# Altium footprint library lib_actives.PcbLib: 10 footprints
Each footprint in its own frame and in the unit in brackets; x right, y up, seen from the top. Pads: shape width x height; smd on the part's side, far side on the other; paste and mask are expansions set on the pad; w line width, h text height; cw(c..) or ccw(c..) is an arc to the next point about the centre after c.
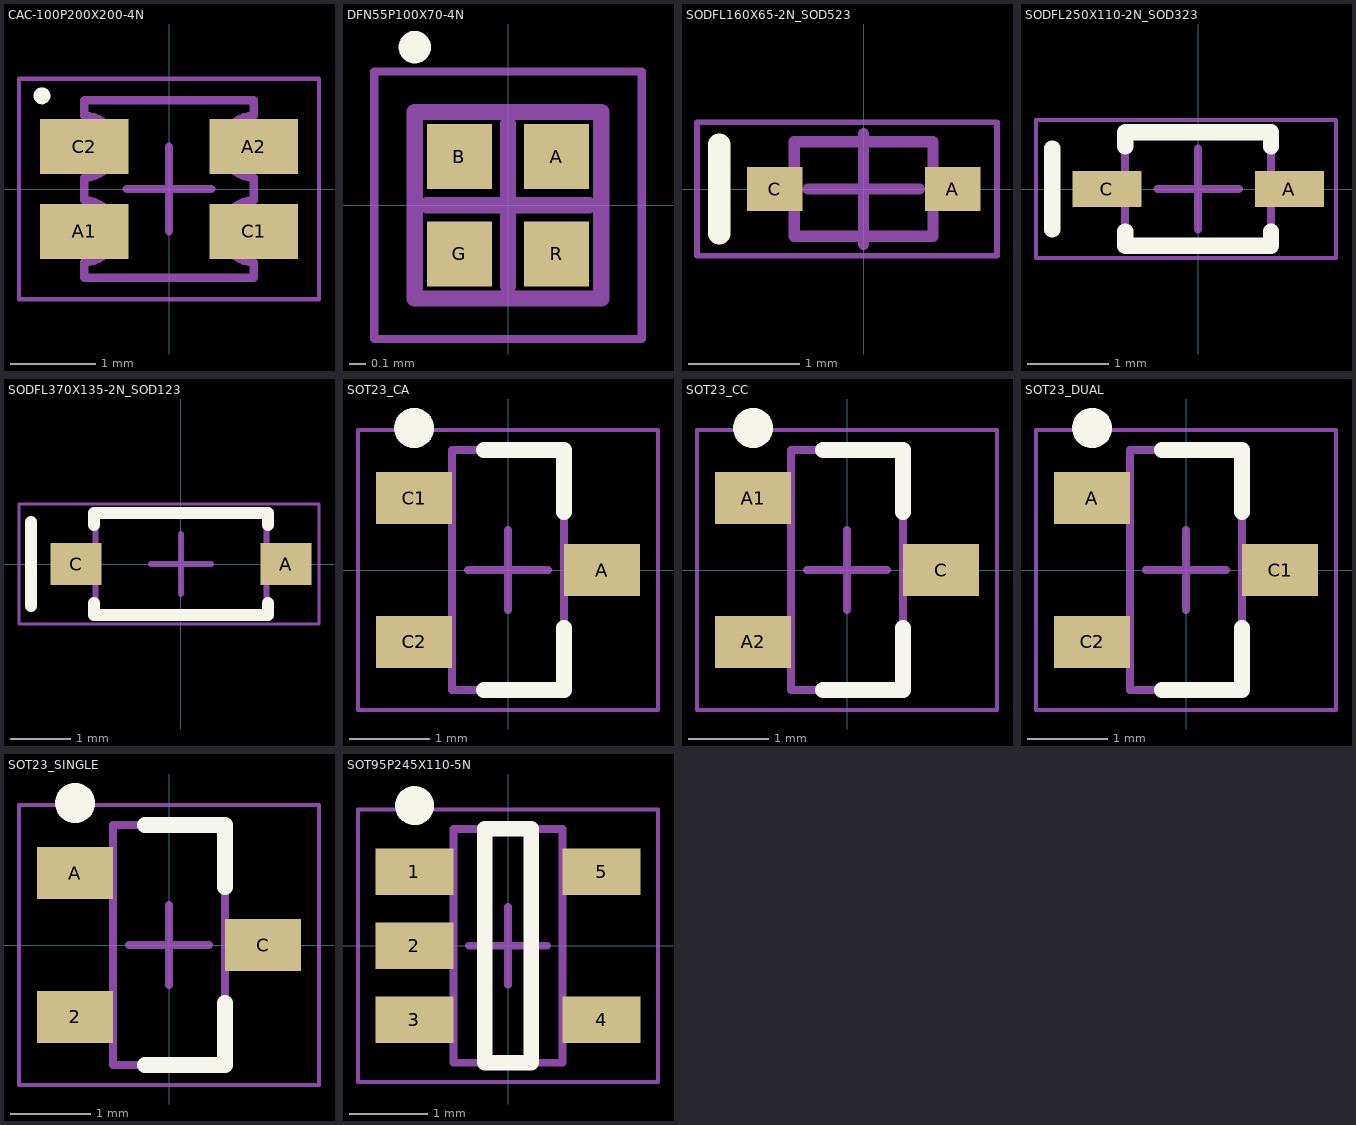
[diagram p0: the footprints below, top view; thin cyan lines are the x and y axes]

## CAC-100P200X200-4N [mm] "Chip Array, Concave, 4-Leads, Pitch 1.00mm,  Body 2.00x2.00mm,  IPC Medium Density - VSMD66694"
height 0.97
pads (4):
  rect 1.05x0.65 smd: A1(-1,-0.5) A2(1,0.5) C1(1,-0.5) C2(-1,0.5)
Top Overlay:
  circle w0.1: c-1.5,1.1 r0.05
Mechanical 13:
  lines w0.1: -1,-1.05 1,-1.05 1,-0.865 cw(c1,-0.5) 1,-0.135 1,0.135 cw(c1,0.5) 1,0.865 1,1.05 -1,1.05 -1,0.865 cw(c-1,0.5) -1,0.135 -1,-0.135 cw(c-1,-0.5) -1,-0.865 -1,-1.05
Mechanical 15:
  lines w0.05: -1.77,-1.3 1.77,-1.3 1.77,1.3 -1.77,1.3 -1.77,-1.3
  lines w0.1: -0.5,0 0.5,0 ; 0,-0.5 0,0.5
3D body "CAC-100P200X200-4N.step": height 0.97, standoff 0, extent -1.1,-1.05 1.1,1.05

## DFN55P100X70-4N [mm] "DFN, 4-Leads, Body 1.00x1.00mm, Pitch 0.55mm, IPC Medium Density - UHD1110-FKA"
height 0.7
pads (4):
  rect 0.4x0.4 smd: A(0.3,0.3) B(-0.3,0.3) G(-0.3,-0.3) R(0.3,-0.3)
Top Overlay:
  circle w0.1: c-0.575,0.975 r0.05
Mechanical 13:
  lines w0.1: -0.575,-0.575 -0.575,0.575 0.575,0.575 0.575,-0.575 -0.575,-0.575
Mechanical 15:
  lines w0.05: -0.825,-0.825 -0.825,0.825 0.825,0.825 0.825,-0.825 -0.825,-0.825
  lines w0.1: -0.5,0 0.5,0 ; 0,-0.5 0,0.5
3D body: height 0.6, standoff 0, extent -0.6,-0.6 0.6,0.6

## SODFL160X65-2N_SOD523 [mm] "SODFL, 2-Leads, Body 0.80x1.60mm, IPC Medium Density"
height 0.65
pads (2):
  rect 0.5x0.4 smd: A(0.8,0) C(-0.8,0)
Top Overlay:
  lines w0.2: -1.3,-0.4 -1.3,0.4
Mechanical 13:
  lines w0.1: -0.625,-0.425 -0.625,0.425 0.625,0.425 0.625,-0.425 -0.625,-0.425
Mechanical 15:
  lines w0.05: -1.5,-0.6 -1.5,0.6 1.2,0.6 1.2,-0.6 -1.5,-0.6
  lines w0.1: -0.5,0 0.5,0 ; 0,-0.5 0,0.5
3D body "SODFL160X65-2N_SOD523.step": height 0.65, standoff 0, extent -0.8,-0.425 0.8,0.425

## SODFL250X110-2N_SOD323 [mm] "SODFL, 2-Leads, Body 1.25x2.50mm, IPC Medium Density"
height 1.1
pads (2):
  rect 0.85x0.45 smd: A(1.125,0) C(-1.125,0)
Top Overlay:
  lines w0.2: -1.8,-0.5 -1.8,0.5 ; -0.9,-0.525 -0.9,-0.7 0.9,-0.7 0.9,-0.525 ; -0.9,0.525 -0.9,0.7 0.9,0.7 0.9,0.525
Mechanical 13:
  lines w0.1: -0.9,-0.675 0.9,-0.675 0.9,0.675 -0.9,0.675 -0.9,-0.675
Mechanical 15:
  lines w0.05: -2,-0.85 1.7,-0.85 1.7,0.85 -2,0.85 -2,-0.85
  lines w0.1: -0.5,0 0.5,0 ; 0,-0.5 0,0.5
3D body "SOD-323_J.stp": height 0.94, standoff -0.01, extent -1.342,-0.65 1.342,0.65

## SODFL370X135-2N_SOD123 [mm] "SODFL, 2-Leads, Body 1.55x3.70mm, IPC Medium Density"
height 1.35
pads (2):
  rect 0.85x0.7 smd: A(1.75,0) C(-1.75,0)
Top Overlay:
  lines w0.2: -2.5,-0.7 -2.5,0.7 ; -1.45,-0.65 -1.45,-0.85 1.45,-0.85 1.45,-0.65 ; -1.45,0.65 -1.45,0.85 1.45,0.85 1.45,0.65
Mechanical 13:
  lines w0.1: -1.425,-0.85 -1.425,0.85 1.425,0.85 1.425,-0.85 -1.425,-0.85
Mechanical 15:
  lines w0.05: -2.7,-1 -2.7,1 2.3,1 2.3,-1 -2.7,-1
  lines w0.1: -0.5,0 0.5,0 ; 0,-0.5 0,0.5
3D body "SOD-123_J.stp": height 1.25, standoff -0.01, extent -1.854,-0.775 1.854,0.775

## SOT23_CA [mm] "SOT23, 3-Leads, Body 2.90x2.40mm, Pitch 0.90mm, IPC Medium Density"
height 1
pads (3):
  rect 0.95x0.65 smd: A(1.175,0) C1(-1.175,0.9) C2(-1.175,-0.9)
Top Overlay:
  circle w0.25: c-1.175,1.775 r0.125
  lines w0.2: -0.3,-1.5 0.7,-1.5 0.7,-0.725 ; -0.3,1.5 0.7,1.5 0.7,0.725
Mechanical 13:
  lines w0.1: -0.7,-1.5 0.7,-1.5 0.7,1.5 -0.7,1.5 -0.7,-1.5
Mechanical 15:
  lines w0.05: -1.875,-1.75 1.875,-1.75 1.875,1.75 -1.875,1.75 -1.875,-1.75
  lines w0.1: -0.5,0 0.5,0 ; 0,-0.5 0,0.5
3D body "SOT90P240X100-3N.step": height 1, standoff 0, extent -1.25,-1.5 1.25,1.5

## SOT23_CC [mm] "SOT23, 3-Leads, Body 2.90x2.40mm, Pitch 0.90mm, IPC Medium Density"
height 1
pads (3):
  rect 0.95x0.65 smd: A1(-1.175,0.9) A2(-1.175,-0.9) C(1.175,0)
Top Overlay:
  circle w0.25: c-1.175,1.775 r0.125
  lines w0.2: -0.3,-1.5 0.7,-1.5 0.7,-0.725 ; -0.3,1.5 0.7,1.5 0.7,0.725
Mechanical 13:
  lines w0.1: -0.7,-1.5 -0.7,1.5 0.7,1.5 0.7,-1.5 -0.7,-1.5
Mechanical 15:
  lines w0.05: -1.875,-1.75 -1.875,1.75 1.875,1.75 1.875,-1.75 -1.875,-1.75
  lines w0.1: -0.5,0 0.5,0 ; 0,-0.5 0,0.5
3D body "SOT90P240X100-3N.step": height 1, standoff 0, extent -1.25,-1.5 1.25,1.5

## SOT23_DUAL [mm] "SOT23, 3-Leads, Body 2.90x2.40mm, Pitch 0.90mm, IPC Medium Density"
height 1
pads (3):
  rect 0.95x0.65 smd: A(-1.175,0.9) C1(1.175,0) C2(-1.175,-0.9)
Top Overlay:
  circle w0.25: c-1.175,1.775 r0.125
  lines w0.2: -0.3,-1.5 0.7,-1.5 0.7,-0.725 ; -0.3,1.5 0.7,1.5 0.7,0.725
Mechanical 13:
  lines w0.1: -0.7,-1.5 -0.7,1.5 0.7,1.5 0.7,-1.5 -0.7,-1.5
Mechanical 15:
  lines w0.05: -1.875,-1.75 -1.875,1.75 1.875,1.75 1.875,-1.75 -1.875,-1.75
  lines w0.1: -0.5,0 0.5,0 ; 0,-0.5 0,0.5
3D body "SOT90P240X100-3N.step": height 1, standoff 0, extent -1.25,-1.5 1.25,1.5

## SOT23_SINGLE [mm] "SOT23, 3-Leads, Body 2.90x2.40mm, Pitch 0.90mm, IPC Medium Density"
height 1
pads (3):
  rect 0.95x0.65 smd: 2(-1.175,-0.9) A(-1.175,0.9) C(1.175,0)
Top Overlay:
  circle w0.25: c-1.175,1.775 r0.125
  lines w0.2: -0.3,-1.5 0.7,-1.5 0.7,-0.725 ; -0.3,1.5 0.7,1.5 0.7,0.725
Mechanical 13:
  lines w0.1: -0.7,-1.5 -0.7,1.5 0.7,1.5 0.7,-1.5 -0.7,-1.5
Mechanical 15:
  lines w0.05: -1.875,-1.75 -1.875,1.75 1.875,1.75 1.875,-1.75 -1.875,-1.75
  lines w0.1: -0.5,0 0.5,0 ; 0,-0.5 0,0.5
3D body "SOT90P240X100-3N.step": height 1, standoff 0, extent -1.25,-1.5 1.25,1.5

## SOT95P245X110-5N [mm] "SOT23, 5-Leads, Body 2.90x2.45mm, Pitch 0.95mm, IPC Medium Density"
height 1.1
pads (5):
  rect 1x0.6 smd: 1(-1.2,0.95) 2(-1.2,0) 3(-1.2,-0.95) 4(1.2,-0.95) 5(1.2,0.95)
Top Overlay:
  circle w0.25: c-1.2,1.8 r0.125
  lines w0.2: -0.3,-1.5 0.3,-1.5 0.3,1.5 -0.3,1.5 -0.3,-1.5
Mechanical 13:
  lines w0.1: -0.7,-1.5 -0.7,1.5 0.7,1.5 0.7,-1.5 -0.7,-1.5
Mechanical 15:
  lines w0.05: -1.925,-1.75 -1.925,1.75 1.925,1.75 1.925,-1.75 -1.925,-1.75
  lines w0.1: -0.5,0 0.5,0 ; 0,-0.5 0,0.5
3D body "SOT95P245X110-5N.step": height 1.1, standoff 0, extent -1.35,-1.5 1.35,1.5